# Altium footprint library BV302S12023.PcbLib: 1 footprints
Each footprint in its own frame and in the unit in brackets; x right, y up, seen from the top. Pads: shape width x height; smd on the part's side, far side on the other; paste and mask are expansions set on the pad; w line width, h text height; cw(c..) or ccw(c..) is an arc to the next point about the centre after c.
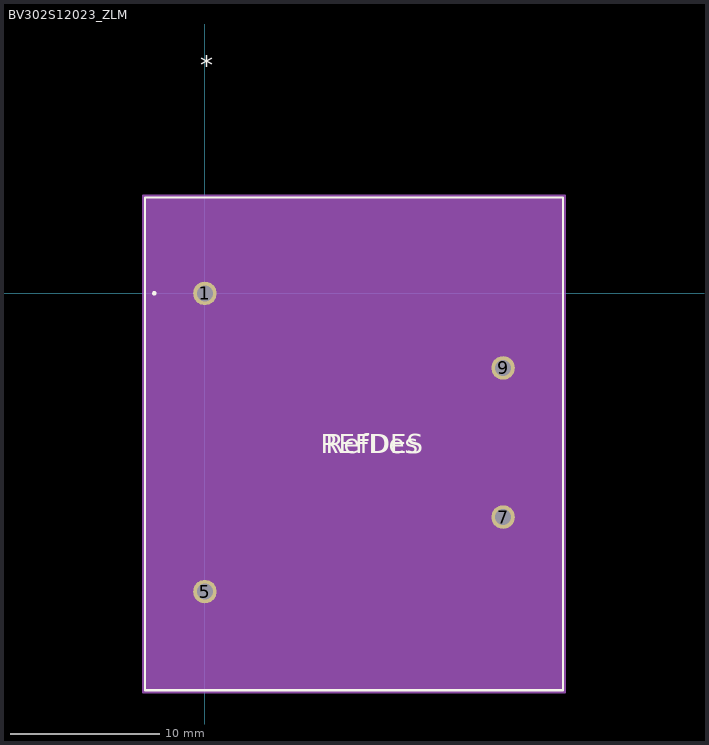
[diagram p0: the footprint, top view; thin cyan lines are the x and y axes]

## BV302S12023_ZLM [mil]
pads (4):
  round 62 / inner round 60 / far side round 62 hole 42 paste-31 mask+0: 1(0,0) 5(0,-787.4) 7(787.4,-590.55) 9(787.4,-196.85)
Top Overlay:
  circle w6: c-133.43,0 r3
  lines w6: -158.3,-1047.97 945.7,-1047.97 945.7,253.03 -158.3,253.03 -158.3,-1047.97
  text "*" at -12.5,577.3 h50
  text "RefDes" at 318.7,-422.47 h50
  text "REFDES" at 306.2,-422.47 h50
Mechanical 13:
  circle w0: c31,0 r3
  lines w0: 381.7,248.03 ccw(c393.7,248.03) 405.7,248.03
  lines w1: -153.3,-1042.97 940.7,-1042.97 940.7,248.03 -153.3,248.03 -153.3,-1042.97
  text "*" at -12.5,81.23 h50
  text "RefDes2" at 306.2,-422.47 h50
Mechanical 15:
  region: 950.7,-1052.97 -163.3,-1052.97 -163.3,258.03 950.7,258.03
  region: 940.7,-1042.97 -153.3,-1042.97 -153.3,248.03 940.7,248.03
  lines w6: -163.3,-1052.97 -163.3,258.03 950.7,258.03 950.7,-1052.97 -163.3,-1052.97
3D body "BV302S12023_ZLM.step": height 1173.11, standoff -300, extent -153.31,-1042.95 940.71,248.03